# Altium schematic symbol library IC-REG.SchLib: 30 symbols
Pins are listed as number, name and electrical type; pins without a type are passive.

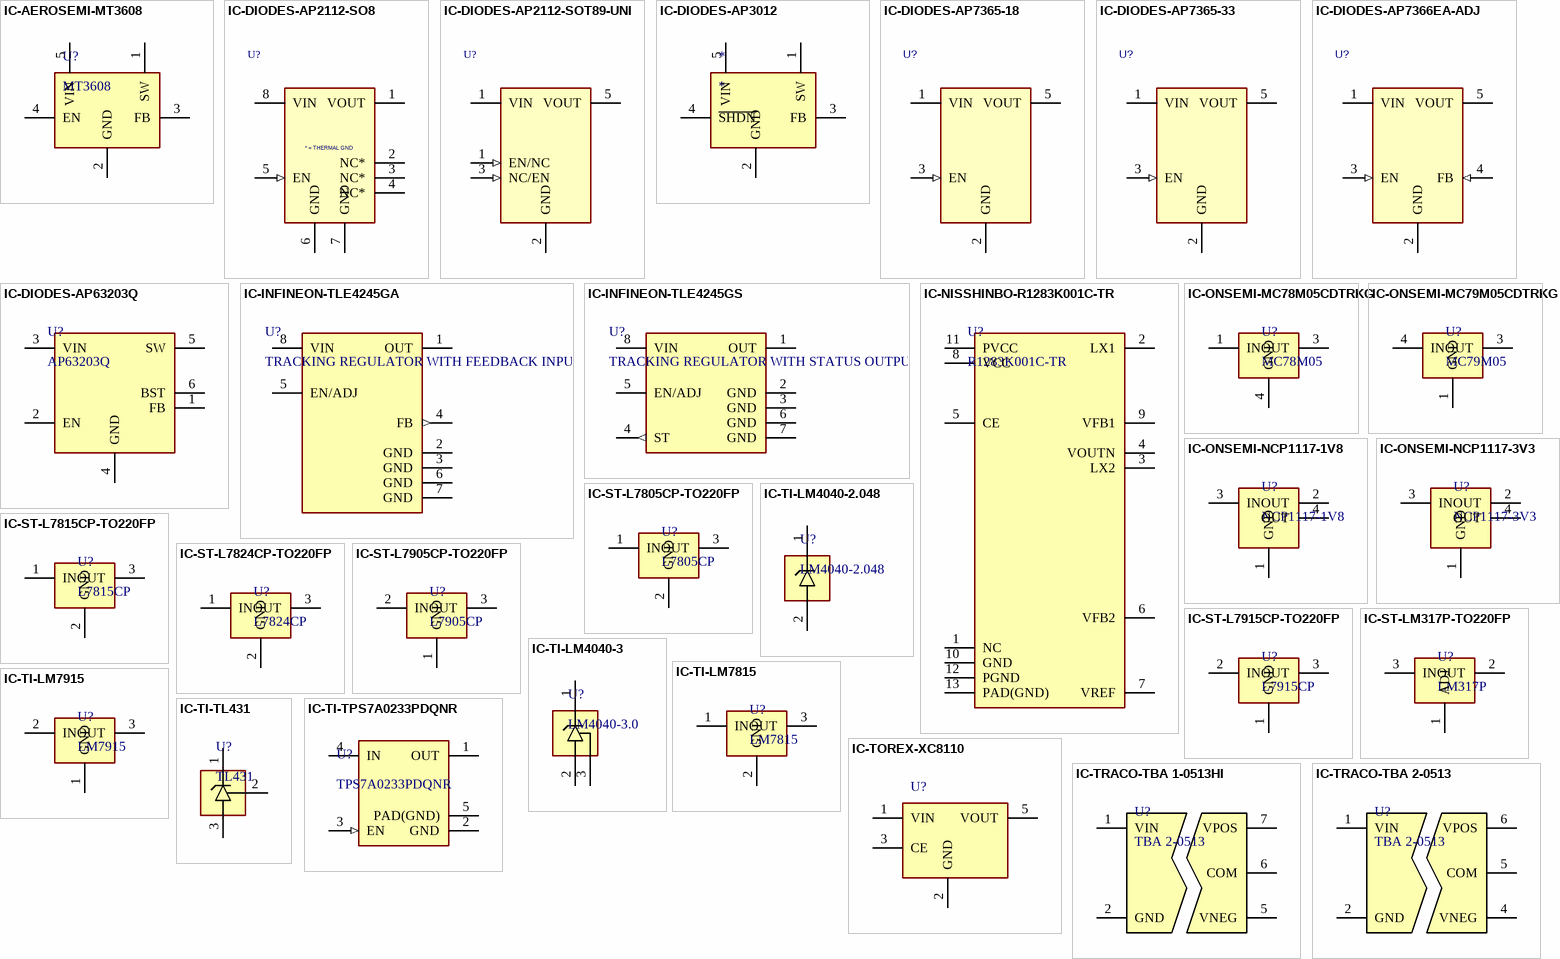
[diagram p0: symbols IC-AEROSEMI-MT3608 to IC-TRACO-TBA 2-0513]

## IC-AEROSEMI-MT3608
designator U?, comment MT3608
IC,REG,BOOST,AEROSEMI,MT3608; LCSC: C84817
footprint SOT23-6 (SOT23 PACKAGE, 6 PIN (SOT26))
pins: 1 SW, 2 GND, 3 FB, 4 EN, 5 VIN

## IC-DIODES-AP2112-SO8
designator U?, comment AP2112-33  (value not drawn)
LCSC: C460402
footprint SOT-23-5_RoundRect
pins: 1 VOUT (power), 2 NC* (power), 3 NC* (power), 4 NC hidden, 4 NC* (power), 5 EN (in), 6 GND (power), 7 GND (power), 8 VIN (power)
text: * = THERMAL GND

## IC-DIODES-AP2112-SOT89-UNI
designator U?, comment AP7365-18  (value not drawn)
LCSC: C460402
footprint SOT-23-5_RoundRect
pins: 1 VIN (power), 1 EN/NC (in), 2 GND (power), 3 NC/EN (in), 4 NC hidden, 5 VOUT (power)

## IC-DIODES-AP3012
designator *
footprint SOT23-5 (SOT23 PACKAGE, 5 PIN (SOT25))
pins: 1 SW, 2 GND, 3 FB, 4 ~{SHDN}, 5 VIN

## IC-DIODES-AP7365-18
designator U?, comment AP7365-18  (value not drawn)
LCSC: C460402
footprint SOT-23-5_RoundRect
pins: 1 VIN (power), 2 GND (power), 3 EN (in), 4 NC hidden, 5 VOUT (power)

## IC-DIODES-AP7365-33
designator U?, comment AP7365-33  (value not drawn)
LCSC: C150742; Footprint: tigard:SOT-23-5_RoundRect
footprint SOT-23-5_RoundRect
pins: 1 VIN (power), 2 GND (power), 3 EN (in), 4 NC hidden, 5 VOUT (power)

## IC-DIODES-AP7366EA-ADJ
designator U?, comment AP7366EA  (value not drawn)
LCSC: C21670951
footprint SOT-23-5_RoundRect
pins: 1 VIN (power), 2 GND (power), 3 EN (in), 4 NC hidden, 4 FB (in), 5 VOUT (power)

## IC-DIODES-AP63203Q
designator U?, comment AP63203Q
IC,PMIC,STEP-DOWN, 2A 3.3V; Supplier 1: Digikey; Supplier Part Number 1: 31-AP63203QWU-7CT-ND; LCSC: C780769
footprint SOT23-6 (SOT23 PACKAGE, 6 PIN (SOT26))
pins: 1 FB, 2 EN, 3 VIN, 4 GND, 5 SW, 6 BST

## IC-INFINEON-TLE4245GA
designator U?, comment TRACKING REGULATOR WITH FEEDBACK INPUT
IC,TRACKING REGULATOR WITH FEEDBACK INPUT
pins: 1 OUT, 2 GND (power), 3 GND (power), 4 FB (out), 5 EN/ADJ, 6 GND (power), 7 GND (power), 8 VIN

## IC-INFINEON-TLE4245GS
designator U?, comment TRACKING REGULATOR WITH STATUS OUTPUT
IC,TRACKING REGULATOR WITH STATUS OUTPUT
pins: 1 OUT, 2 GND (power), 3 GND (power), 4 ST (out), 5 EN/ADJ, 6 GND (power), 7 GND (power), 8 VIN

## IC-NISSHINBO-R1283K001C-TR
designator U?, comment R1283K001C-TR
IC,PMIC,POS/NEG,ADJ,1.4MHz,RICOH-NISSHINBO,R1283K001C-TR
pins: 1 NC, 2 LX1, 3 LX2, 4 VOUTN, 5 CE, 6 VFB2, 7 VREF, 8 VCC, 9 VFB1, 10 GND, 11 PVCC, 12 PGND, 13 PAD(GND)

## IC-ONSEMI-MC78M05CDTRKG
designator U?, comment MC78M05
IC,VOLTAGE REG,LIN,POSITIVE,5V,7805,DPAK; Manufacturer 1: ONSEMI; Manufacturer Part Number 1: MC78M05CDTRKG
footprint DPAK
pins: 1 IN, 3 OUT, 4 GND

## IC-ONSEMI-MC79M05CDTRKG
designator U?, comment MC79M05
IC,VOLTAGE REG,LIN,NEGATIVE,-5V,7905,DPAK; Manufacturer 1: ONSEMI; Manufacturer Part Number 1: MC79M05CDTRKG
footprint DPAK
pins: 1 GND, 3 OUT, 4 IN

## IC-ONSEMI-NCP1117-1V8
designator U?, comment NCP1117-1V8
IC,VOLTAGE REG,LIN,POSITIVE,1V8,NCP1117-18,SOT223; Manufacturer 1: ONSEMI; Manufacturer Part Number 1: NCP1117IST18T3G; LCSC: C6185
footprint SOT223-4N (SOT223 SOT-223)
pins: 1 GND, 2 OUT, 3 IN, 4 OUT

## IC-ONSEMI-NCP1117-3V3
designator U?, comment NCP1117-3V3
IC,VOLTAGE REG,LIN,POSITIVE,3V3,NCP1117-33,SOT223; Manufacturer 1: ONSEMI; Manufacturer Part Number 1: NCP1117ST33T3G; LCSC: C6186
footprint SOT223-4N (SOT223 SOT-223)
pins: 1 GND, 2 OUT, 3 IN, 4 OUT

## IC-ST-L7805CP-TO220FP
designator U?, comment L7805CP
IC,VOLTAGE REG,LIN,POSITIVE,5V,7805,TO220 FULLPACK; LCSC: C460608
footprint TO220V-OVERMOLD
pins: 1 IN, 2 GND, 3 OUT

## IC-ST-L7815CP-TO220FP
designator U?, comment L7815CP
IC,VOLTAGE REG,LIN,POSITIVE,15V,7815,TO220 FULLPACK; LCSC: C460608
footprint TO220V-OVERMOLD
pins: 1 IN, 2 GND, 3 OUT

## IC-ST-L7824CP-TO220FP
designator U?, comment L7824CP
IC,VOLTAGE REG,LIN,POSITIVE,24V,7824,TO220 FULLPACK; LCSC: C460608
footprint TO220V-OVERMOLD
pins: 1 IN, 2 GND, 3 OUT

## IC-ST-L7905CP-TO220FP
designator U?, comment L7905CP
IC,VOLTAGE REG,LIN,NEGATIVE,-5V,7905,TO220 FULLPACK; LCSC: C460608
footprint TO220V-OVERMOLD
pins: 1 GND, 2 IN, 3 OUT

## IC-ST-L7915CP-TO220FP
designator U?, comment L7915CP
IC,VOLTAGE REG,LIN,NEGATIVE,-15V,7915,TO220 FULLPACK; LCSC: C460608
footprint TO220V-OVERMOLD
pins: 1 GND, 2 IN, 3 OUT

## IC-ST-LM317P-TO220FP
designator U?, comment LM317P
IC,VOLTAGE REG,LIN,POSITIVE,ADJ,LM317P,TO220
footprint TO220V-OVERMOLD
pins: 1 ADJ, 2 OUT, 3 IN

## IC-TI-LM4040-2.048
designator U?, comment LM4040-2.048
IC,VOLTAGE REFERENCE,2.048V; Manufacturer 1: TI; Manufacturer Part Number 1: LM4040A20IDBZR; LCSC: C2156884
footprint SOT23 (SOT23 PACKAGE, 3 PIN)
pins: 1, 2

## IC-TI-LM4040-3
designator U?, comment LM4040-3.0
IC,VOLTAGE REFERENCE,3.0V; Supplier 1: Mouser; Supplier Part Number 1: 926-LM4040AIM330NOPB; LCSC: C460608
footprint SOT23 (SOT23 PACKAGE, 3 PIN)
pins: 1, 2, 3

## IC-TI-LM7815
designator U?, comment LM7815
IC,VOLTAGE REG,LIN,POSITIVE,15V,7815,TO220; LCSC: C460608
footprint SOT23 (SOT23 PACKAGE, 3 PIN)
pins: 1 IN, 2 GND, 3 OUT

## IC-TI-LM7915
designator U?, comment LM7915
IC,VOLTAGE REG,LIN,NEGATIVE,-15V,7915,TO220; LCSC: C460608
footprint SOT23 (SOT23 PACKAGE, 3 PIN)
pins: 1 GND, 2 IN, 3 OUT

## IC-TI-TL431
designator U?, comment TL431
IC,VOLTAGE REFERENCE,3.0V; Supplier 1: Mouser; Supplier Part Number 1: 926-LM4040AIM330NOPB; LCSC: C460608
footprint SOT23 (SOT23 PACKAGE, 3 PIN)
pins: 1, 2, 3

## IC-TI-TPS7A0233PDQNR
designator U?, comment TPS7A0233PDQNR
IC,VOLTAGE REG,LIN,POSITIVE,3V3; Manufacturer 1: TI; LCSC: C2860046; Manufacturer Part Number 1: TPS7A0233PDQNR
footprint X2SON4-1X1 (FOOTPRINT, TI, DQN0004A X2SON4)
pins: 1 OUT, 2 GND (power), 3 EN (in), 4 IN (power), 5 PAD(GND)

## IC-TOREX-XC8110
designator U?  (value not drawn)
IC,PMIC,IDEAL DIODE ORING CONTROLLER; LCSC: C3235547; Supplier 1: Digikey; Supplier Part Number 1: 893-XC8110AA01MR-GCT-ND
footprint SOT23-5 (SOT23 PACKAGE, 5 PIN (SOT25))
pins: 1 VIN, 2 GND, 3 CE, 5 VOUT

## IC-TRACO-TBA 1-0513HI
designator U?, comment TBA 2-0513
MODULE,DCDC,1W,5VIN,+/-15VOUT,TRACO,TBA 1-0513HI
pins: 1 VIN, 2 GND, 5 VNEG, 6 COM, 7 VPOS

## IC-TRACO-TBA 2-0513
designator U?, comment TBA 2-0513
MODULE,DCDC,2W,5VIN,+/-15VOUT,TRACO,TBA 2-0513
pins: 1 VIN, 2 GND, 4 VNEG, 5 COM, 6 VPOS